# Altium footprint library DIP - LED Display.PcbLib: 44 footprints (part 3 of 3)
Each footprint in its own frame and in the unit in brackets; x right, y up, seen from the top. Pads: shape width x height; smd on the part's side, far side on the other; paste and mask are expansions set on the pad; w line width, h text height; cw(c..) or ccw(c..) is an arc to the next point about the centre after c.
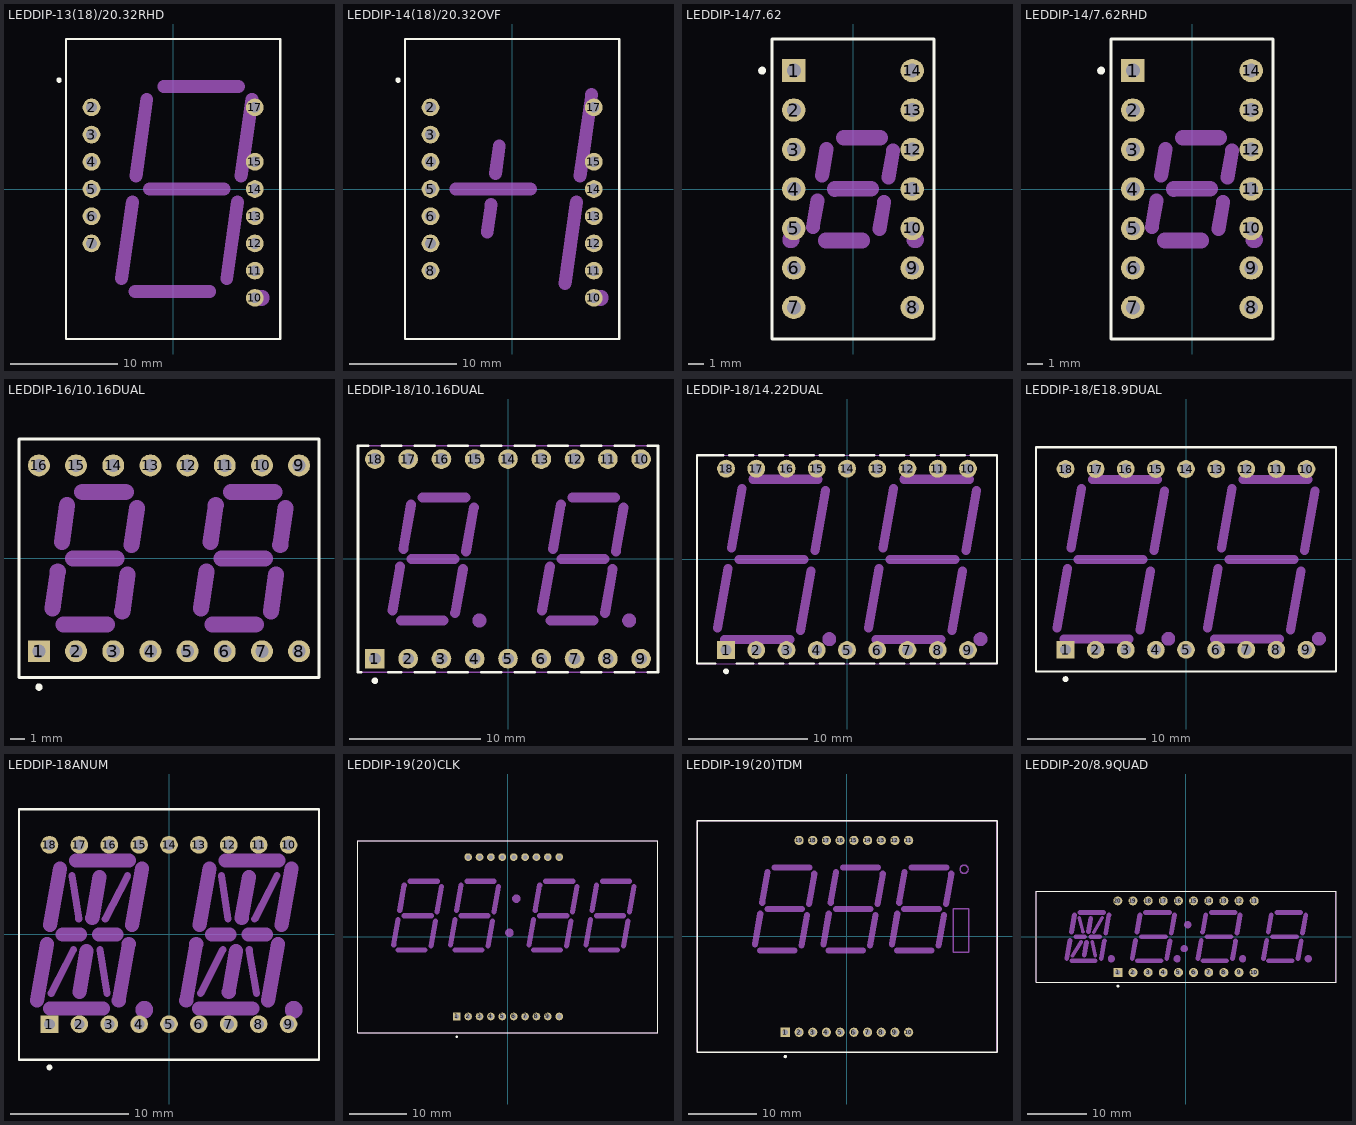
[diagram p2: the footprints below, top view; thin cyan lines are the x and y axes]

## LEDDIP-13(18)/20.32RHD [mm] "LED, 7-Segment Display, 20.32 mm, RHD; 18 Leads (5 Absent); Row Space 15.24 mm; Pitch 2.54 mm"
height 8.64
pads (13):
  round 1.65 hole 1: 2(-7.62,7.62) 3(-7.62,5.08) 4(-7.62,2.54) 5(-7.62,0) 6(-7.62,-2.54) 7(-7.62,-5.08) 10(7.62,-10.16) 11(7.62,-7.62) 12(7.62,-5.08) 13(7.62,-2.54) 14(7.62,0) 15(7.62,2.54) 17(7.62,7.62)
Top Overlay:
  circle w0.25: c-10.65,10.16 r0.125
  lines w0.2: -10,-14 -10,14 10,14 10,-14 -10,-14
Mechanical 1:
  circle w1.2: c8.25,-10.16 r0.15
  lines w1.2: -4.81,-8.36 -3.8,-1.2 ; -3.57,-9.56 3.42,-9.56 ; -3.47,1.2 -2.46,8.38 ; -2.22,0 4.76,0 ; -0.88,9.56 6.11,9.56 ; 5,-8.36 6,-1.2 ; 6.34,1.2 7.35,8.37
Mechanical 13:
  lines w0.1: -10,-14 -10,14 10,14 10,-14 -10,-14
3D body: height 8.64, standoff 0, extent -10,-14 10,14

## LEDDIP-14(18)/20.32OVF [mm] "LED, 7-Segment Display, 20.32 mm, RHD; 18 Leads (4 Absent); Row Space 15.24 mm; Pitch 2.54 mm"
height 8.64
pads (14):
  round 1.65 hole 1: 2(-7.62,7.62) 3(-7.62,5.08) 4(-7.62,2.54) 5(-7.62,0) 6(-7.62,-2.54) 7(-7.62,-5.08) 8(-7.62,-7.62) 10(7.62,-10.16) 11(7.62,-7.62) 12(7.62,-5.08) 13(7.62,-2.54) 14(7.62,0) 15(7.62,2.54) 17(7.62,7.62)
Top Overlay:
  circle w0.25: c-10.65,10.16 r0.125
  lines w0.2: -10,-14 -10,14 10,14 10,-14 -10,-14
Mechanical 1:
  circle w1.2: c8.25,-10.16 r0.15
  lines w1.2: -5.27,0 1.71,0 ; -2.32,-4 -1.96,-1.45 ; -1.56,1.45 -1.2,4 ; 4.93,-8.835 6,-1.2 ; 6.34,1.2 7.42,8.835
Mechanical 13:
  lines w0.1: -10,-14 -10,14 10,14 10,-14 -10,-14
3D body: height 8.64, standoff 0, extent -10,-14 10,14

## LEDDIP-14/7.62 [mm] "LED, 7-Segment Display, 7.62 mm, LHD; 14 Leads; Row Space 7.62 mm; Pitch 2.54 mm"
height 6.35
pads (14):
  rect 1.5x1.5 hole 0.9: 1(-3.81,7.62)
  round 1.5 hole 0.9: 2(-3.81,5.08) 3(-3.81,2.54) 4(-3.81,0) 5(-3.81,-2.54) 6(-3.81,-5.08) 7(-3.81,-7.62) 8(3.81,-7.62) 9(3.81,-5.08) 10(3.81,-2.54) 11(3.81,0) 12(3.81,2.54) 13(3.81,5.08) 14(3.81,7.62)
Top Overlay:
  circle w0.25: c-5.85,7.62 r0.125
  lines w0.2: -5.2,-9.65 -5.2,9.65 5.2,9.65 5.2,-9.65 -5.2,-9.65
Mechanical 1:
  circle w0.85: c-4,-3.26 r0.126
  circle w0.85: c4,-3.26 r0.126
  lines w0.9: -2.585,-2.458 -2.284,-0.752 ; -2.003,0.855 -1.699,2.559 ; 1.698,-2.559 2.002,-0.835 ; 2.28,0.751 2.582,2.47
  lines w1: -1.769,-3.312 0.598,-3.312 ; -1.183,0 1.179,0.004 ; -0.601,3.309 1.766,3.311
Mechanical 13:
  lines w0.1: -5.2,-9.65 -5.2,9.65 5.2,9.65 5.2,-9.65 -5.2,-9.65
3D body: height 6.35, standoff 0, extent -5.2,-9.65 5.2,9.65

## LEDDIP-14/7.62RHD [mm] "LED, 7-Segment Display, 7.62 mm, RHD; 14 Leads; Row Space 7.62 mm; Pitch 2.54 mm"
height 6.35
pads (14):
  rect 1.5x1.5 hole 0.9: 1(-3.81,7.62)
  round 1.5 hole 0.9: 2(-3.81,5.08) 3(-3.81,2.54) 4(-3.81,0) 5(-3.81,-2.54) 6(-3.81,-5.08) 7(-3.81,-7.62) 8(3.81,-7.62) 9(3.81,-5.08) 10(3.81,-2.54) 11(3.81,0) 12(3.81,2.54) 13(3.81,5.08) 14(3.81,7.62)
Top Overlay:
  circle w0.25: c-5.85,7.62 r0.125
  lines w0.2: -5.2,-9.65 -5.2,9.65 5.2,9.65 5.2,-9.65 -5.2,-9.65
Mechanical 1:
  circle w0.85: c4,-3.26 r0.126
  lines w0.9: -2.585,-2.458 -2.284,-0.752 ; -2.003,0.855 -1.699,2.559 ; 1.698,-2.559 2.002,-0.835 ; 2.28,0.751 2.582,2.47
  lines w1: -1.769,-3.312 0.598,-3.312 ; -1.183,0 1.179,0.004 ; -0.601,3.309 1.766,3.311
Mechanical 13:
  lines w0.1: -5.2,-9.65 -5.2,9.65 5.2,9.65 5.2,-9.65 -5.2,-9.65
3D body: height 6.35, standoff 0, extent -5.2,-9.65 5.2,9.65

## LEDDIP-16/10.16DUAL [mm] "LED, 7-Segment Display, 10.16 mm, Dual Digit; 16 Leads; Row Space 12.7 mm; Pitch 2.54 mm"
height 7.16
pads (16):
  rect 1.5x1.5 hole 0.9: 1(16.51,-6.35)
  round 1.5 hole 0.9: 2(19.05,-6.35) 3(21.59,-6.35) 4(24.13,-6.35) 5(26.67,-6.35) 6(29.21,-6.35) 7(31.75,-6.35) 8(34.29,-6.35) 9(34.29,6.35) 10(31.75,6.35) 11(29.21,6.35) 12(26.67,6.35) 13(24.13,6.35) 14(21.59,6.35) 15(19.05,6.35) 16(16.51,6.35)
Top Overlay:
  circle w0.25: c16.51,-8.8 r0.125
  lines w0.2: 15.15,-8.15 35.65,-8.15 35.65,8.15 15.15,8.15 15.15,-8.15
Mechanical 1:
  lines w1.1: 17.44,-3.432 17.797,-0.898 ; 18.077,1.104 18.433,3.628 ; 18.199,-4.53 21.169,-4.53 ; 18.834,0 21.806,0 ; 19.475,4.53 22.443,4.53 ; 22.208,-3.63 22.563,-1.102 ; 22.844,0.904 23.202,3.432 ; 27.6,-3.432 27.957,-0.898 ; 28.237,1.104 28.593,3.628 ; 28.359,-4.53 31.329,-4.53 ; 28.994,0 31.966,0 ; 29.635,4.53 32.603,4.53 ; 32.368,-3.63 32.723,-1.102 ; 33.004,0.904 33.362,3.432
Mechanical 13:
  lines w0.1: 15.15,-8.15 15.15,8.15 35.65,8.15 35.65,-8.15 15.15,-8.15
3D body: height 7.16, standoff 0, extent 15.15,-8.15 35.65,8.15

## LEDDIP-18/10.16DUAL [mm] "LED, 7-Segment Display, 10.16 mm, Dual Digit; 18 Leads; Row Space 15.24 mm; Pitch 2.54 mm"
height 6.35
pads (18):
  rect 1.5x1.5 hole 0.9: 1(-10.16,-7.62)
  round 1.5 hole 0.9: 2(-7.62,-7.62) 3(-5.08,-7.62) 4(-2.54,-7.62) 5(0,-7.62) 6(2.54,-7.62) 7(5.08,-7.62) 8(7.62,-7.62) 9(10.16,-7.62) 10(10.16,7.62) 11(7.62,7.62) 12(5.08,7.62) 13(2.54,7.62) 14(0,7.62) 15(-2.54,7.62) 16(-5.08,7.62) 17(-7.62,7.62) 18(-10.16,7.62)
Top Overlay:
  circle w0.25: c-10.16,-9.3 r0.125
  lines w0.2: -11.2,-8.65 -11.45,-8.65 -11.45,8.65 -10.68,8.65 ; -9.64,8.65 -8.14,8.65 ; -9.12,-8.65 -8.14,-8.65 ; -7.1,-8.65 -5.6,-8.65 ; -7.1,8.65 -5.6,8.65 ; -4.56,-8.65 -3.06,-8.65 ; -4.56,8.65 -3.06,8.65 ; -2.02,-8.65 -0.52,-8.65 ; -2.02,8.65 -0.52,8.65 ; 0.52,-8.65 2.02,-8.65 ; 0.52,8.65 2.02,8.65 ; 3.06,-8.65 4.56,-8.65 ; 3.06,8.65 4.56,8.65 ; 5.6,-8.65 7.1,-8.65 ; 5.6,8.65 7.1,8.65 ; 8.14,-8.65 9.64,-8.65 ; 8.14,8.65 9.64,8.65 ; 10.68,-8.65 11.45,-8.65 11.45,8.65 10.68,8.65
Mechanical 1:
  circle w0.86: c9.248,-4.7 r0.1
  circle w0.86: c-2.182,-4.7 r0.1
  lines w0.762: -8.823,-3.935 -8.229,-0.562 ; -8.182,-4.7 -4.907,-4.7 ; -7.994,0.765 -7.401,4.137 ; -7.356,0 -4.074,0 ; -6.526,4.7 -3.248,4.7 ; -4.031,-4.136 -3.438,-0.763 ; -3.203,0.564 -2.61,3.938 ; 2.607,-3.935 3.201,-0.562 ; 3.248,-4.7 6.523,-4.7 ; 3.436,0.765 4.029,4.137 ; 4.074,0 7.356,0 ; 4.904,4.7 8.182,4.7 ; 7.399,-4.136 7.992,-0.763 ; 8.227,0.564 8.82,3.938
Mechanical 13:
  lines w0.1: -11.45,-8.65 -11.45,8.65 11.45,8.65 11.45,-8.65 -11.45,-8.65
3D body: height 6.35, standoff 0, extent -11.45,-8.65 11.45,8.65

## LEDDIP-18/14.22DUAL [mm] "LED, 7-Segment Display, 14.22 mm, Dual Digit; 18 Leads; Row Space 15.24 mm; Pitch 2.54 mm"
height 8.25
pads (18):
  rect 1.5x1.5 hole 0.9: 1(-10.16,-7.62)
  round 1.5 hole 0.9: 2(-7.62,-7.62) 3(-5.08,-7.62) 4(-2.54,-7.62) 5(0,-7.62) 6(2.54,-7.62) 7(5.08,-7.62) 8(7.62,-7.62) 9(10.16,-7.62) 10(10.16,7.62) 11(7.62,7.62) 12(5.08,7.62) 13(2.54,7.62) 14(0,7.62) 15(-2.54,7.62) 16(-5.08,7.62) 17(-7.62,7.62) 18(-10.16,7.62)
Top Overlay:
  circle w0.25: c-10.16,-9.4 r0.125
  lines w0.2: -11.06,-8.75 -12.6,-8.75 -12.6,8.75 -10.41,8.75 ; -9.91,8.75 -7.87,8.75 ; -9.26,-8.75 -7.87,-8.75 ; -7.37,-8.75 -5.33,-8.75 ; -7.37,8.75 -5.33,8.75 ; -4.83,-8.75 -2.79,-8.75 ; -4.83,8.75 -2.79,8.75 ; -2.29,-8.75 -0.25,-8.75 ; -2.29,8.75 -0.25,8.75 ; 0.25,-8.75 2.29,-8.75 ; 0.25,8.75 2.29,8.75 ; 2.79,-8.75 4.83,-8.75 ; 2.79,8.75 4.83,8.75 ; 5.33,-8.75 7.37,-8.75 ; 5.33,8.75 7.37,8.75 ; 7.87,-8.75 9.91,-8.75 ; 7.87,8.75 9.91,8.75 ; 10.41,-8.75 12.6,-8.75 12.6,8.75 10.41,8.75
Mechanical 1:
  circle w0.86: c-1.49,-6.7 r0.15
  circle w0.86: c11.21,-6.7 r0.15
  lines w0.762: -10.88,-5.77 -10,-0.76 ; -10.28,-6.73 -4.8,-6.73 ; -9.69,0.97 -8.81,5.97 ; -9.09,0 -3.61,0 ; -7.9,6.73 -2.42,6.73 ; -3.89,-5.97 -3.01,-0.96 ; -2.7,0.76 -1.82,5.77 ; 1.82,-5.77 2.7,-0.76 ; 2.42,-6.73 7.9,-6.73 ; 3.01,0.97 3.89,5.97 ; 3.61,0 9.09,0 ; 4.8,6.73 10.28,6.73 ; 8.81,-5.97 9.69,-0.96 ; 10,0.76 10.88,5.77
Mechanical 13:
  lines w0.1: -12.6,-8.75 -12.6,8.75 12.6,8.75 12.6,-8.75 -12.6,-8.75
3D body: height 8.25, standoff 0, extent -12.6,-8.75 12.6,8.75

## LEDDIP-18/E18.9DUAL [mm] "LED, 7-Segment Display, 14.22 mm, Dual Digit; 18 Leads; Row Space 15.24 mm; Pitch 2.54 mm"
height 8.25
pads (18):
  rect 1.5x1.5 hole 0.9: 1(-10.16,-7.62)
  round 1.5 hole 0.9: 2(-7.62,-7.62) 3(-5.08,-7.62) 4(-2.54,-7.62) 5(0,-7.62) 6(2.54,-7.62) 7(5.08,-7.62) 8(7.62,-7.62) 9(10.16,-7.62) 10(10.16,7.62) 11(7.62,7.62) 12(5.08,7.62) 13(2.54,7.62) 14(0,7.62) 15(-2.54,7.62) 16(-5.08,7.62) 17(-7.62,7.62) 18(-10.16,7.62)
Top Overlay:
  circle w0.25: c-10.16,-10.1 r0.125
  lines w0.2: -12.65,-9.45 -12.65,9.45 12.65,9.45 12.65,-9.45 -12.65,-9.45
Mechanical 1:
  circle w0.86: c-1.49,-6.7 r0.15
  circle w0.86: c11.21,-6.7 r0.15
  lines w0.762: -10.88,-5.77 -10,-0.76 ; -10.28,-6.73 -4.8,-6.73 ; -9.69,0.97 -8.81,5.97 ; -9.09,0 -3.61,0 ; -7.9,6.73 -2.42,6.73 ; -3.89,-5.97 -3.01,-0.96 ; -2.7,0.76 -1.82,5.77 ; 1.82,-5.77 2.7,-0.76 ; 2.42,-6.73 7.9,-6.73 ; 3.01,0.97 3.89,5.97 ; 3.61,0 9.09,0 ; 4.8,6.73 10.28,6.73 ; 8.81,-5.97 9.69,-0.96 ; 10,0.76 10.88,5.77
Mechanical 13:
  lines w0.1: -12.65,-9.45 -12.65,9.45 12.65,9.45 12.65,-9.45 -12.65,-9.45
3D body: height 8.25, standoff 0, extent -12.65,-9.45 12.65,9.45

## LEDDIP-18ANUM [mm] "LED, Alphanumeric Display, 13.8 mm, Dual Character; 18 Leads; Row Space 15.24 mm; Pitch 2.54 mm"
height 7.27
pads (18):
  rect 1.5x1.5 hole 0.9: 1(-10.16,-7.62)
  round 1.5 hole 0.9: 2(-7.62,-7.62) 3(-5.08,-7.62) 4(-2.54,-7.62) 5(0,-7.62) 6(2.54,-7.62) 7(5.08,-7.62) 8(7.62,-7.62) 9(10.16,-7.62) 10(10.16,7.62) 11(7.62,7.62) 12(5.08,7.62) 13(2.54,7.62) 14(0,7.62) 15(-2.54,7.62) 16(-5.08,7.62) 17(-7.62,7.62) 18(-10.16,7.62)
Top Overlay:
  circle w0.25: c-10.16,-11.3 r0.125
  lines w0.2: -12.75,-10.65 12.75,-10.65 12.75,10.65 -12.75,10.65 -12.75,-10.65
Mechanical 1:
  circle w1.2: c-2.1,-6.4 r0.15
  circle w1.2: c10.6,-6.4 r0.15
  lines w0.6: -10.01,-5 -8.12,-1.3 ; -8.25,5 -7.67,1.3 ; -5.88,-1.3 -5.28,-5 ; -5.42,1.3 -3.52,5 ; 2.69,-5 4.58,-1.3 ; 4.45,5 5.03,1.3 ; 6.82,-1.3 7.42,-5 ; 7.28,1.3 9.18,5
  lines w1.2: -11.23,-5.6 -10.38,-0.8 ; -10.13,-6.3 -5.62,-6.3 ; -10.1,0.8 -9.26,5.58 ; -9.035,0 -7.58,0 ; -7.9,6.3 -3.39,6.3 ; -7.62,-4.89 -7.01,-1.4 ; -6.52,1.41 -5.91,4.89 ; -5.96,0 -4.465,0 ; -4.27,-5.6 -3.42,-0.8 ; -3.13,0.81 -2.3,5.59 ; 1.47,-5.6 2.32,-0.8 ; 2.57,-6.3 7.08,-6.3 ; 2.6,0.8 3.44,5.58 ; 3.665,0 5.14,0 ; 4.8,6.3 9.31,6.3 ; 5.08,-4.89 5.69,-1.4 ; 6.18,1.41 6.79,4.89 ; 6.76,0 8.235,0 ; 8.43,-5.6 9.28,-0.8 ; 9.57,0.81 10.4,5.59
Mechanical 13:
  lines w0.1: -12.75,-10.65 -12.75,10.65 12.75,10.65 12.75,-10.65 -12.75,-10.65
3D body: height 7.27, standoff 0, extent -12.75,-10.65 12.75,10.65

## LEDDIP-19(20)CLK [mm] "LED, Clock Display Module; 20 Leads (1 Absent); Row Space 28 mm; Pitch 2 mm"
height 8.25
pads (19):
  rect 1.35x1.35 hole 0.8: 1(-9,-14)
  round 1.35 hole 0.8: 2(-7,-14) 3(-5,-14) 4(-3,-14) 5(-1,-14) 6(1,-14) 7(3,-14) 8(5,-14) 9(7,-14) 10(9,-14) 11(9,14) 12(7,14) 13(5,14) 14(3,14) 15(1,14) 16(-1,14) 17(-3,14) 18(-5,14) 19(-7,14)
Top Overlay:
  circle w0.25: c-9,-17.55 r0.125
  lines w0.2: -26.35,-16.9 26.35,-16.9 26.35,16.9 -26.35,16.9 -26.35,-16.9
Mechanical 1:
  circle w1.2: c1.47,6.7 r0.15
  circle w1.2: c0.25,0.7 r0.15
  lines w0.9: -20.08,-1.45 -19.3,3 ; -19.33,-2.35 -14.56,-2.35 ; -19.02,4.6 -18.23,9.05 ; -18.26,3.7 -13.49,3.7 ; -17.19,9.75 -12.43,9.75 ; -13.52,-1.65 -12.74,2.8 ; -12.45,4.4 -11.67,8.85 ; -10.08,-1.45 -9.3,3 ; -9.33,-2.35 -4.56,-2.35 ; -9.02,4.6 -8.23,9.05 ; -8.26,3.7 -3.49,3.7 ; -7.19,9.75 -2.43,9.75 ; -3.52,-1.65 -2.74,2.8 ; -2.45,4.4 -1.67,8.85 ; 3.72,-1.45 4.5,3 ; 4.47,-2.35 9.24,-2.35 ; 4.78,4.6 5.57,9.05 ; 5.54,3.7 10.31,3.7 ; 6.61,9.75 11.37,9.75 ; 10.28,-1.65 11.06,2.8 ; 11.35,4.4 12.13,8.85 ; 13.72,-1.45 14.5,3 ; 14.47,-2.35 19.24,-2.35 ; 14.78,4.6 15.57,9.05 ; 15.54,3.7 20.31,3.7 ; 16.61,9.75 21.37,9.75 ; 20.28,-1.65 21.06,2.8 ; 21.35,4.4 22.13,8.85
  text "HR" at -6.252,6.886 h1.5
  text "CLEAN" at 12.6,-6.8 h2.4
  text "TIMER" at 12.6,-10.3 h2.4
  text "CLOCK" at 1.45,-6.8 h2.4
  text "STOP" at 1.5,-10.3 h2.4
  text "DIG 1" at 17.15,11.2 h1
  text "DIG 2" at 7.15,11.2 h1
  text "DIG 3" at -6.85,11.2 h1
  text "DIG 4" at -16.85,11.2 h1
  text "E" at -22.8,4.1 h2.8
  text "T" at -22.8,0.3 h2.8
  text "S" at -22.8,7.9 h2.8
  text "START" at -11.3,-7 h2.4
  text "COOK" at -11.3,-10.5 h2.4
Mechanical 13:
  lines w0.1: -26.35,-16.9 -26.35,16.9 26.35,16.9 26.35,-16.9 -26.35,-16.9
3D body: height 8.25, standoff 0, extent -26.35,-16.9 26.35,16.9

## LEDDIP-19(20)TDM [mm] "LED, Temperature Display Module; 20 Leads (1 Absent); Row Space 28 mm; Pitch 2 mm"
height 8.25
pads (19):
  rect 1.35x1.35 hole 0.8: 1(-9,-14)
  round 1.35 hole 0.8: 2(-7,-14) 3(-5,-14) 4(-3,-14) 5(-1,-14) 6(1,-14) 7(3,-14) 8(5,-14) 9(7,-14) 10(9,-14) 11(9,14) 12(7,14) 13(5,14) 14(3,14) 15(1,14) 16(-1,14) 17(-3,14) 18(-5,14) 19(-7,14)
Top Overlay:
  circle w0.25: c-9,-17.55 r0.125
  lines w0.2: -21.9,-16.9 -21.9,16.9 21.9,16.9 21.9,-16.9 -21.9,-16.9
Mechanical 1:
  circle w0.2: c17.1,9.8 r0.6
  lines w0.2: 15.5,-2.3 17.8,-2.3 17.8,4 15.5,4 15.5,-2.3
  lines w0.9: -13.44,-1.15 -12.66,3.3 ; -12.69,-2.05 -7.66,-2.05 ; -12.38,4.9 -11.59,9.35 ; -11.63,4 -6.59,4 ; -10.56,10.05 -5.52,10.05 ; -6.62,-1.35 -5.83,3.1 ; -5.55,4.71 -4.77,9.15 ; -3.44,-1.15 -2.66,3.3 ; -2.69,-2.05 2.34,-2.05 ; -2.38,4.9 -1.59,9.35 ; -1.63,4 3.41,4 ; -0.56,10.05 4.48,10.05 ; 3.38,-1.35 4.17,3.1 ; 4.45,4.71 5.23,9.15 ; 6.56,-1.15 7.34,3.3 ; 7.31,-2.05 12.34,-2.05 ; 7.62,4.9 8.41,9.35 ; 8.37,4 13.41,4 ; 9.44,10.05 14.48,10.05 ; 13.38,-1.35 14.17,3.1 ; 14.45,4.71 15.23,9.15
  text "N" at 16,-1.6 h2
  text "O" at 15.9,1.1 h2
  text "DIG 6" at 0.15,10.76 h1
  text "DIG 7" at -9.85,10.76 h1
  text "DIG 5" at 10.15,10.76 h1
  text "E" at -16,4.4 h2.8
  text "T" at -16,0.6 h2.8
  text "S" at -16,8.2 h2.8
  text "DELAY" at -16,-6.5 h2.2
  text "CONV" at -4,-6.5 h2.2
  text "BAKE" at 7,-6.5 h2.2
  text "PROBE" at -16,-10 h2.2
  text "BROIL" at -4,-10 h2.2
  text "CLEAN" at 7,-10 h2.2
Mechanical 13:
  lines w0.1: -21.9,-16.9 -21.9,16.9 21.9,16.9 21.9,-16.9 -21.9,-16.9
3D body: height 8.25, standoff 0, extent -21.9,-16.9 21.9,16.9

## LEDDIP-20/8.9QUAD [mm] "LED, 7-Segment Display, 8.9 mm, Four Digit; 20 Leads; Row Space 12 mm; Pitch 2.54 mm"
height 15.75
pads (20):
  rect 1.5x1.5 hole 0.9: 1(-11.43,-6)
  round 1.5 hole 0.9: 2(-8.89,-6) 3(-6.35,-6) 4(-3.81,-6) 5(-1.27,-6) 6(1.27,-6) 7(3.81,-6) 8(6.35,-6) 9(8.89,-6) 10(11.43,-6) 11(11.43,6) 12(8.89,6) 13(6.35,6) 14(3.81,6) 15(1.27,6) 16(-1.27,6) 17(-3.81,6) 18(-6.35,6) 19(-8.89,6) 20(-11.43,6)
Top Overlay:
  circle w0.25: c-11.43,-8.3 r0.125
  lines w0.2: -25.15,-7.65 -25.15,7.65 25.15,7.65 25.15,-7.65 -25.15,-7.65
Mechanical 1:
  circle w1: c20.5,-3.7 r0.1
  circle w1: c9.5,-3.7 r0.1
  circle w1: c-12.5,-3.7 r0.1
  circle w1: c-1.5,-3.7 r0.1
  circle w1: c-0.3,-2 r0.1
  circle w1: c0.3,2 r0.1
  lines w0.6: -19.034,-3.191 -17.564,-0.855 ; -17.92,3.166 -17.267,0.812 ; -15.737,-0.853 -15.184,-3.199 ; -15.451,0.777 -14.06,3.158
  lines w0.8: -19.997,-3.644 -19.453,-0.589 ; -19.212,0.795 -18.707,3.668 ; -19.165,-4.05 -15.201,-4.05 ; -18.488,0 -17,0 ; -17.778,4.05 -13.789,4.05 ; -17.067,-3.1 -16.673,-0.95 ; -16.345,0.869 -15.952,3.074 ; -15.987,0 -14.45,0 ; -14.214,-3.647 -13.683,-0.68 ; -13.465,0.587 -12.93,3.65 ; -8.997,-3.644 -8.453,-0.589 ; -8.212,0.795 -7.707,3.668 ; -8.165,-4.05 -4.201,-4.05 ; -7.488,0 -3.45,0 ; -6.778,4.05 -2.789,4.05 ; -3.214,-3.647 -2.683,-0.68 ; -2.465,0.587 -1.93,3.65 ; 2.003,-3.644 2.547,-0.589 ; 2.788,0.795 3.293,3.668 ; 2.835,-4.05 6.799,-4.05 ; 3.512,0 7.55,0 ; 4.222,4.05 8.211,4.05 ; 7.786,-3.647 8.317,-0.68 ; 8.535,0.587 9.07,3.65 ; 13.003,-3.644 13.547,-0.589 ; 13.788,0.795 14.293,3.668 ; 13.835,-4.05 17.799,-4.05 ; 14.512,0 18.55,0 ; 15.222,4.05 19.211,4.05 ; 18.786,-3.647 19.317,-0.68 ; 19.535,0.587 20.07,3.65
Mechanical 13:
  lines w0.1: -25.15,-7.65 -25.15,7.65 25.15,7.65 25.15,-7.65 -25.15,-7.65
3D body: height 15.75, standoff 0, extent -25.15,-7.65 25.15,7.65